# Altium schematic symbol library SCH - POWER - SWITCHMODE - TI TPS61177ARGR.SchLib: 1 symbol
Pins are listed as number, name and electrical type; pins without a type are passive.

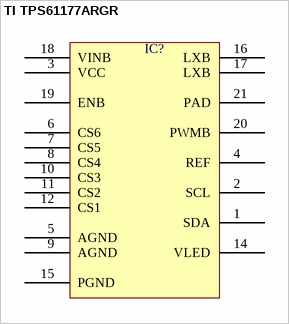
[diagram p0: symbol TI TPS61177ARGR]

## TI TPS61177ARGR
designator IC?  (value not drawn)
pins: 1 SDA, 2 SCL, 3 VCC, 4 REF, 5 AGND, 6 CS6, 7 CS5, 8 CS4, 9 AGND, 10 CS3, 11 CS2, 12 CS1, 14 VLED, 15 PGND, 16 LXB, 17 LXB, 18 VINB, 19 ENB, 20 PWMB, 21 PAD